# EAGLE library part PHB_1MM27_2X14_* (library _hhn_con_pinhead_box_1mm27)
Pin Header Box-Type, 1.27mm/0.5"/50mil Pitch, 2x14 Circuits Note: see library description for an important note about THT-version
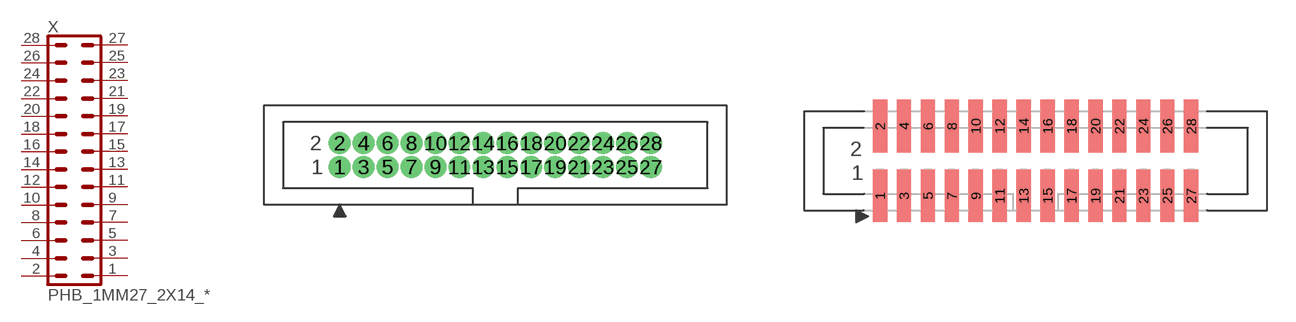
[diagram p11: symbol with the pads of PHB_1MM27_2X14_SNT; footprints PHB_1MM27_2X14_SNT, PHB_1MM27_2X14_SNS]

Designator prefix X

## PHB_1MM27_2X14_SNT  [PHB_1MM27_2X14_SNT]
1  1  pas
2  2  pas
3  3  pas
4  4  pas
5  5  pas
6  6  pas
7  7  pas
8  8  pas
9  9  pas
10  10  pas
11  11  pas
12  12  pas
13  13  pas
14  14  pas
15  15  pas
16  16  pas
17  17  pas
18  18  pas
19  19  pas
20  20  pas
21  21  pas
22  22  pas
23  23  pas
24  24  pas
25  25  pas
26  26  pas
27  27  pas
28  28  pas

## PHB_1MM27_2X14_SNS  [PHB_1MM27_2X14_SNS]
Pads as for PHB_1MM27_2X14_SNT

## Footprint PHB_1MM27_2X14_SNT (pad centres in mm)
Pin Header Box-Type, 1.27mm Pitch, 2x14 circuits, Straight, No Locking, THT Important Note regarding to THT-versions: see description of library
drill 0.65 round: 1 -8.255,-0.635; 2 -8.255,0.635; 3 -6.985,-0.635; 4 -6.985,0.635; 5 -5.715,-0.635; 6 -5.715,0.635; 7 -4.445,-0.635; 8 -4.445,0.635; 9 -3.175,-0.635; 10 -3.175,0.635; 11 -1.905,-0.635; 12 -1.905,0.635; 13 -0.635,-0.635; 14 -0.635,0.635; 15 0.635,-0.635; 16 0.635,0.635; 17 1.905,-0.635; 18 1.905,0.635; 19 3.175,-0.635; 20 3.175,0.635; 21 4.445,-0.635; 22 4.445,0.635; 23 5.715,-0.635; 24 5.715,0.635; 25 6.985,-0.635; 26 6.985,0.635; 27 8.255,-0.635; 28 8.255,0.635

## Footprint PHB_1MM27_2X14_SNS (pad centres in mm)
Pin Header Box-Type, 1.27mm Pitch, 2x14 circuits, Straight, No Locking, SMT
smd 0.76 x 2.8: 1 -8.255,-1.85; 2 -8.255,1.85; 3 -6.985,-1.85; 4 -6.985,1.85; 5 -5.715,-1.85; 6 -5.715,1.85; 7 -4.445,-1.85; 8 -4.445,1.85; 9 -3.175,-1.85; 10 -3.175,1.85; 11 -1.905,-1.85; 12 -1.905,1.85; 13 -0.635,-1.85; 14 -0.635,1.85; 15 0.635,-1.85; 16 0.635,1.85; 17 1.905,-1.85; 18 1.905,1.85; 19 3.175,-1.85; 20 3.175,1.85; 21 4.445,-1.85; 22 4.445,1.85; 23 5.715,-1.85; 24 5.715,1.85; 25 6.985,-1.85; 26 6.985,1.85; 27 8.255,-1.85; 28 8.255,1.85